# Altium footprint library SOIC.PcbLib: 46 footprints (part 3 of 3)
Each footprint in its own frame and in the unit in brackets; x right, y up, seen from the top. Pads: shape width x height; smd on the part's side, far side on the other; paste and mask are expansions set on the pad; w line width, h text height; cw(c..) or ccw(c..) is an arc to the next point about the centre after c.
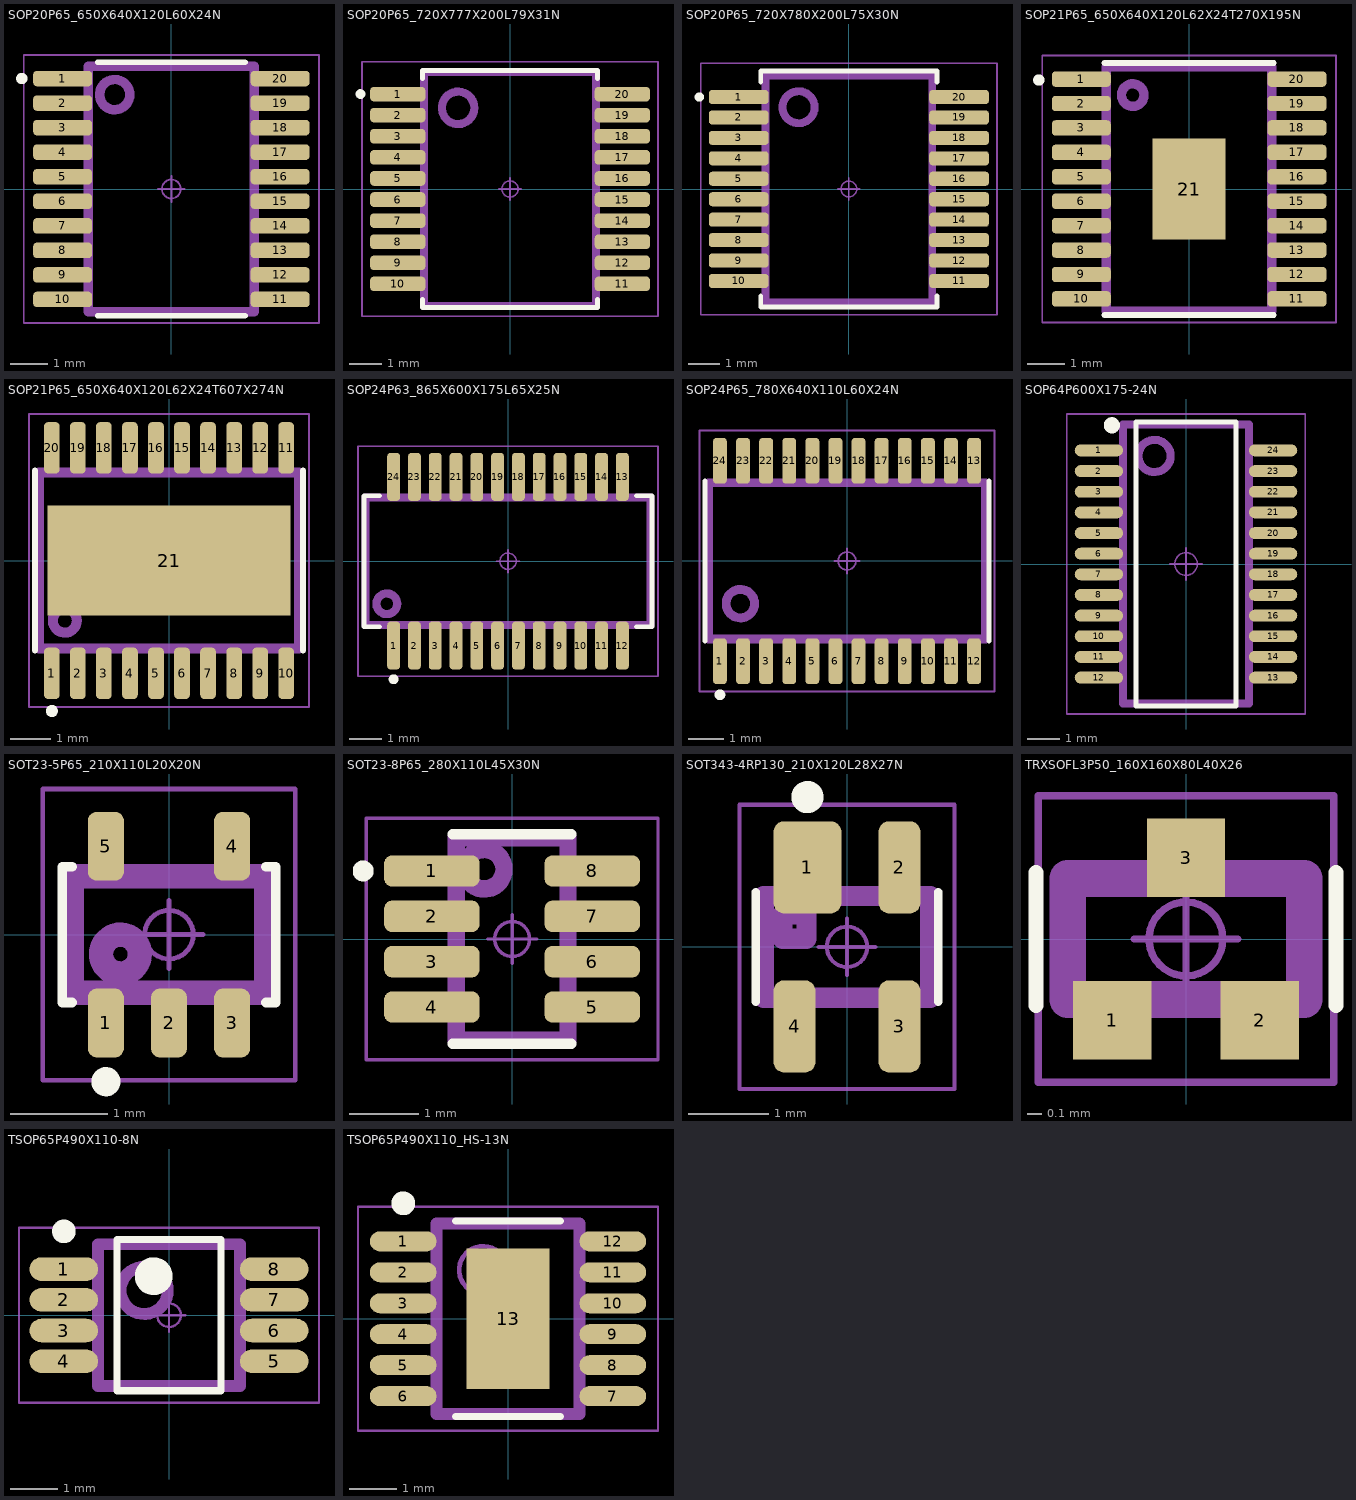
[diagram p2: the footprints below, top view; thin cyan lines are the x and y axes]

## SOP20P65_650X640X120L60X24N [mm] "Small Outline Pkg (SOP), 0.65 mm pitch; 20 pin, 6.50 mm L X 4.40 mm W X 1.20 mm H body"
height 1.2
pads (20):
  rrect49% 1.56x0.41 smd: 1(-2.88,2.925) 2(-2.88,2.275) 3(-2.88,1.625) 4(-2.88,0.975) 5(-2.88,0.325) 6(-2.88,-0.325) 7(-2.88,-0.975) 8(-2.88,-1.625) 9(-2.88,-2.275) 10(-2.88,-2.925) 11(2.88,-2.925) 12(2.88,-2.275) 13(2.88,-1.625) 14(2.88,-0.975) 15(2.88,-0.325) 16(2.88,0.325) 17(2.88,0.975) 18(2.88,1.625) 19(2.88,2.275) 20(2.88,2.925)
Top Overlay:
  circle w0.15: c-3.96,2.925 r0.075
  lines w0.15: -1.95,-3.355 1.95,-3.355 ; -1.95,3.355 1.95,3.355
Top Assembly:
  circle w0.25: c-1.5,2.5 r0.4
  lines w0.25: -2.2,-3.25 2.2,-3.25 2.2,3.25 -2.2,3.25 -2.2,-3.25
  text ".Designator" at -3.378,-0.339 h1.5
Top Courtyard:
  circle w0.05: c0,0 r0.25
  lines w0.05: -0.35,0 0.35,0 ; 0,-0.35 0,0.35 ; -3.91,-3.55 3.91,-3.55 3.91,3.55 -3.91,3.55 -3.91,-3.55
3D body "SOP20P65_650X640X120L60X24.STEP": height 1.2, standoff 0, extent -3.2,-3.25 3.2,3.25

## SOP20P65_720X777X200L79X31N [mm] "Small Outline Pkg (SOP), 0.65 mm pitch; 20 pin, 7.20 mm L X 5.29 mm W X 2.00 mm H body"
height 2
pads (20):
  rrect50% 1.7x0.45 smd: 1(-3.46,2.925) 2(-3.46,2.275) 3(-3.46,1.625) 4(-3.46,0.975) 5(-3.46,0.325) 6(-3.46,-0.325) 7(-3.46,-0.975) 8(-3.46,-1.625) 9(-3.46,-2.275) 10(-3.46,-2.925) 11(3.46,-2.925) 12(3.46,-2.275) 13(3.46,-1.625) 14(3.46,-0.975) 15(3.46,-0.325) 16(3.46,0.325) 17(3.46,0.975) 18(3.46,1.625) 19(3.46,2.275) 20(3.46,2.925)
Top Overlay:
  circle w0.15: c-4.61,2.925 r0.075
  lines w0.15: -2.7,-3.4 -2.7,-3.65 2.7,-3.65 2.7,-3.4 ; -2.7,3.4 -2.7,3.65 2.7,3.65 2.7,3.4
Top Assembly:
  circle w0.25: c-1.6,2.5 r0.5
  lines w0.25: -2.65,-3.6 2.65,-3.6 2.65,3.6 -2.65,3.6 -2.65,-3.6
  text ".Designator" at -3.378,-0.339 h1.5
Top Courtyard:
  circle w0.05: c0,0 r0.25
  lines w0.05: -0.35,0 0.35,0 ; 0,-0.35 0,0.35 ; -4.56,-3.92 4.56,-3.92 4.56,3.92 -4.56,3.92 -4.56,-3.92
3D body "SOP20P65_720X777X200L79X31.STEP": height 2, standoff 0, extent -3.888,-3.6 3.888,3.6

## SOP20P65_720X780X200L75X30N [mm] "Small Outline Pkg (SOP), 0.65 mm pitch; 20 pin, 7.20 mm L X 5.30 mm W X 2.00 mm H body"
height 2
pads (20):
  rrect50% 1.9x0.45 smd: 1(-3.505,2.925) 2(-3.505,2.275) 3(-3.505,1.625) 4(-3.505,0.975) 5(-3.505,0.325) 6(-3.505,-0.325) 7(-3.505,-0.975) 8(-3.505,-1.625) 9(-3.505,-2.275) 10(-3.505,-2.925) 11(3.505,-2.925) 12(3.505,-2.275) 13(3.505,-1.625) 14(3.505,-0.975) 15(3.505,-0.325) 16(3.505,0.325) 17(3.505,0.975) 18(3.505,1.625) 19(3.505,2.275) 20(3.505,2.925)
Top Overlay:
  circle w0.15: c-4.755,2.925 r0.075
  lines w0.15: -2.8,-3.4 -2.8,-3.75 2.8,-3.75 2.8,-3.4 ; -2.8,3.4 -2.8,3.75 2.8,3.75 2.8,3.4
Top Assembly:
  circle w0.25: c-1.6,2.6 r0.51
  lines w0.25: -2.65,-3.6 -2.65,3.6 2.65,3.6 2.65,-3.6 -2.65,-3.6
  text ".Designator" at -3.378,-0.339 h1.5
Top Courtyard:
  circle w0.05: c0,0 r0.25
  lines w0.05: -0.35,0 0.35,0 ; 0,-0.35 0,0.35 ; -4.71,-4 -4.71,4 4.71,4 4.71,-4 -4.71,-4
3D body "SOP20P65_720X780X200L75X30.STEP": height 2, standoff 0, extent -3.9,-3.6 3.9,3.6

## SOP21P65_650X640X120L62X24T270X195N [mm] "Small Outline Pkg (SOP with Tab), 0.65 mm pitch; 20 pin, 6.50 mm L X 4.40 mm W X 1.20 mm H body"
height 1.2
pads (21):
  rrect49% 1.57x0.41 smd: 1(-2.87,2.925) 2(-2.87,2.275) 3(-2.87,1.625) 4(-2.87,0.975) 5(-2.87,0.325) 6(-2.87,-0.325) 7(-2.87,-0.975) 8(-2.87,-1.625) 9(-2.87,-2.275) 10(-2.87,-2.925) 11(2.87,-2.925) 12(2.87,-2.275) 13(2.87,-1.625) 14(2.87,-0.975) 15(2.87,-0.325) 16(2.87,0.325) 17(2.87,0.975) 18(2.87,1.625) 19(2.87,2.275) 20(2.87,2.925)
  rect 1.95x2.7 smd: 21(0,0)
Top Overlay:
  circle w0.15: c-4,2.9 r0.075
  lines w0.15: -2.25,-3.355 2.25,-3.355 ; -2.25,3.355 2.25,3.355
Top Paste:
  region: 0.145,0.145 0.145,1.205 0.835,1.205 0.835,0.145
  region: -0.835,0.145 -0.835,1.205 -0.145,1.205 -0.145,0.145
  region: 0.145,-1.205 0.145,-0.145 0.835,-0.145 0.835,-1.205
  region: -0.835,-1.205 -0.835,-0.145 -0.145,-0.145 -0.145,-1.205
Top Assembly:
  circle w0.25: c-1.5,2.5 r0.3
  lines w0.25: -2.2,-3.25 2.2,-3.25 2.2,3.25 -2.2,3.25 -2.2,-3.25
  text ".Designator" at -3.378,-0.339 h1.5
Top Courtyard:
  circle w0.05: c0,0 r0.25
  lines w0.05: -0.35,0 0.35,0 ; 0,-0.35 0,0.35 ; -3.91,-3.55 3.91,-3.55 3.91,3.55 -3.91,3.55 -3.91,-3.55
3D body "SOP21P65_650X640X120L62X24T270X195.STEP": height 1.2, standoff 0, extent -3.2,-3.25 3.2,3.25

## SOP21P65_650X640X120L62X24T607X274N [mm] "Small Outline Pkg (SOP with Tab), 0.65 mm pitch; 20 pin, 6.50 mm L X 4.40 mm W X 1.20 mm H body"
height 1.2
pads (21):
  rrect51% 0.39x1.28 smd: 1(-2.925,-2.815) 2(-2.275,-2.815) 3(-1.625,-2.815) 4(-0.975,-2.815) 5(-0.325,-2.815) 6(0.325,-2.815) 7(0.975,-2.815) 8(1.625,-2.815) 9(2.275,-2.815) 10(2.925,-2.815) 11(2.925,2.815) 12(2.275,2.815) 13(1.625,2.815) 14(0.975,2.815) 15(0.325,2.815) 16(-0.325,2.815) 17(-0.975,2.815) 18(-1.625,2.815) 19(-2.275,2.815) 20(-2.925,2.815)
  rect 6.07x2.74 smd paste-6.07: 21(0,0)
Top Overlay:
  circle w0.15: c-2.925,-3.755 r0.075
  lines w0.15: -3.345,-2.25 -3.345,2.25 ; 3.345,-2.25 3.345,2.25
Top Paste:
  region: 2.94,-0.97 1.62,-0.97 1.62,0.97 2.94,0.97
  region: 1.42,-0.97 0.1,-0.97 0.1,0.97 1.42,0.97
  region: -0.1,-0.97 -1.42,-0.97 -1.42,0.97 -0.1,0.97
  region: -1.62,-0.97 -2.94,-0.97 -2.94,0.97 -1.62,0.97
Top Assembly:
  circle w0.25: c-2.6,-1.5 r0.3
  lines w0.25: -3.25,-2.2 -3.25,2.2 3.25,2.2 3.25,-2.2 -3.25,-2.2
  text ".Designator" at -3.378,-0.339 h1.5
Top Courtyard:
  circle w0.05: c0,0 r0.25
  lines w0.05: -0.35,0 0.35,0 ; 0,-0.35 0,0.35 ; -3.5,-3.66 -3.5,3.66 3.5,3.66 3.5,-3.66 -3.5,-3.66
3D body "SOP21P65_650X640X120L62X24T607X274.STEP": height 1.2, standoff 0, extent -3.25,-3.2 3.25,3.2

## SOP24P63_865X600X175L65X25N [mm] "Small Outline Pkg (SOP), 0.635 mm pitch; 24 pin, 8.65 mm L X 3.90 mm W X 1.75 mm H body"
height 1.75
pads (24):
  rrect51% 0.39x1.46 smd: 1(-3.492,-2.575) 2(-2.857,-2.575) 3(-2.222,-2.575) 4(-1.587,-2.575) 5(-0.953,-2.575) 6(-0.318,-2.575) 7(0.318,-2.575) 8(0.953,-2.575) 9(1.587,-2.575) 10(2.222,-2.575) 11(2.857,-2.575) 12(3.492,-2.575) 13(3.492,2.575) 14(2.857,2.575) 15(2.222,2.575) 16(1.587,2.575) 17(0.953,2.575) 18(0.318,2.575) 19(-0.318,2.575) 20(-0.953,2.575) 21(-1.587,2.575) 22(-2.222,2.575) 23(-2.857,2.575) 24(-3.492,2.575)
Top Overlay:
  circle w0.15: c-3.492,-3.605 r0.075
  lines w0.15: -3.925,-2 -4.4,-2 -4.4,2 -3.925,2 ; 3.925,-2 4.4,-2 4.4,2 3.925,2
Top Assembly:
  circle w0.25: c-3.7,-1.3 r0.316
  lines w0.25: -4.35,-1.95 4.35,-1.95 4.35,1.95 -4.35,1.95 -4.35,-1.95
  text ".Designator" at -3.378,-0.339 h1.5
Top Courtyard:
  circle w0.05: c0,0 r0.25
  lines w0.05: -0.35,0 0.35,0 ; 0,-0.35 0,0.35 ; -4.58,-3.51 4.58,-3.51 4.58,3.51 -4.58,3.51 -4.58,-3.51
3D body "SOP24P63_865X600X175L65X25.STEP": height 1.75, standoff 0, extent -4.325,-3 4.325,3

## SOP24P65_780X640X110L60X24N [mm] "Small Outline Pkg (SOP), 0.65 mm pitch; 24 pin, 7.80 mm L X 4.40 mm W X 1.10 mm H body"
height 1.1
pads (24):
  rrect51% 0.39x1.29 smd: 1(-3.575,-2.82) 2(-2.925,-2.82) 3(-2.275,-2.82) 4(-1.625,-2.82) 5(-0.975,-2.82) 6(-0.325,-2.82) 7(0.325,-2.82) 8(0.975,-2.82) 9(1.625,-2.82) 10(2.275,-2.82) 11(2.925,-2.82) 12(3.575,-2.82) 13(3.575,2.82) 14(2.925,2.82) 15(2.275,2.82) 16(1.625,2.82) 17(0.975,2.82) 18(0.325,2.82) 19(-0.325,2.82) 20(-0.975,2.82) 21(-1.625,2.82) 22(-2.275,2.82) 23(-2.925,2.82) 24(-3.575,2.82)
Top Overlay:
  circle w0.15: c-3.575,-3.765 r0.075
  lines w0.15: -3.995,-2.25 -3.995,2.25 ; 3.995,-2.25 3.995,2.25
Top Assembly:
  circle w0.25: c-3,-1.2 r0.4
  lines w0.25: -3.9,-2.2 -3.9,2.2 3.9,2.2 3.9,-2.2 -3.9,-2.2
  text ".Designator" at -3,-0.3 h1.5
Top Courtyard:
  circle w0.05: c0,0 r0.25
  lines w0.05: -0.35,0 0.35,0 ; 0,-0.35 0,0.35 ; -4.15,-3.67 -4.15,3.67 4.15,3.67 4.15,-3.67 -4.15,-3.67
3D body "SOP24P65_780X640X110L60X24.STEP": height 1.1, standoff 0, extent -3.9,-3.2 3.9,3.2

## SOP64P600X175-24N [mm] "SOP, 24-Leads, Body 8.65x3.90mm, Pitch 0.64mm, IPC Medium Density"
height 1.75
pads (24):
  oval 1.5x0.37 smd: 1(-2.7,3.52) 2(-2.7,2.88) 3(-2.7,2.24) 4(-2.7,1.6) 5(-2.7,0.96) 6(-2.7,0.32) 7(-2.7,-0.32) 8(-2.7,-0.96) 9(-2.7,-1.6) 10(-2.7,-2.24) 11(-2.7,-2.88) 12(-2.7,-3.52) 13(2.7,-3.52) 14(2.7,-2.88) 15(2.7,-2.24) 16(2.7,-1.6) 17(2.7,-0.96) 18(2.7,-0.32) 19(2.7,0.32) 20(2.7,0.96) 21(2.7,1.6) 22(2.7,2.24) 23(2.7,2.88) 24(2.7,3.52)
Top Overlay:
  circle w0.25: c-2.3,4.3 r0.125
  lines w0.15: -1.55,-4.4 1.55,-4.4 1.55,4.4 -1.55,4.4 -1.55,-4.4
Top Assembly:
  circle w0.25: c-0.975,3.35 r0.5
  lines w0.25: -1.95,-4.325 1.95,-4.325 1.95,4.325 -1.95,4.325 -1.95,-4.325
  text ".Designator" at -1.2,-0.318 h1.5
Top Courtyard:
  circle w0.05: c0,0 r0.35
  lines w0.05: -0.5,0 0.5,0 ; 0,-0.5 0,0.5 ; -3.7,-4.65 3.7,-4.65 3.7,4.65 -3.7,4.65 -3.7,-4.65
3D body "SOP64P600X175-24N.step": height 1.75, standoff 0, extent -3,-4.4 3,4.4

## SOT23-5P65_210X110L20X20N [mm] "Small Outline Transistor (SOT23), 0.65 mm pitch; 5 pin, 2.00 mm L X 1.25 mm W X 1.10 mm H body"
height 1.1
pads (5):
  rrect49% 0.37x0.71 smd: 1(-0.65,-0.91) 2(0,-0.91) 3(0.65,-0.91) 4(0.65,0.91) 5(-0.65,0.91)
Top Overlay:
  circle w0.15: c-0.65,-1.515 r0.075
  lines w0.1: -1,-0.7 -1.1,-0.7 -1.1,0.7 -1,0.7 ; 1,-0.7 1.1,-0.7 1.1,0.7 1,0.7
Top Assembly:
  circle w0.25: c-0.5,-0.2 r0.2
  lines w0.25: -1,-0.6 -1,0.6 1,0.6 1,-0.6 -1,-0.6
  text ".Designator" at -2.3,1.1 h1.5
Top Courtyard:
  circle w0.05: c0,0 r0.25
  lines w0.05: -0.35,0 0.35,0 ; 0,-0.35 0,0.35 ; -1.3,-1.5 -1.3,1.5 1.3,1.5 1.3,-1.5 -1.3,-1.5
3D body "SOT23-5P65_210X110L20X20.STEP": height 1.1, standoff 0, extent -1,-1.05 1,1.05

## SOT23-8P65_280X110L45X30N [mm] "Small Outline Transistor (SOT23), 0.65 mm pitch; 8 pin, 2.90 mm L X 1.60 mm W X 1.10 mm H body"
height 1.1
pads (8):
  rrect50% 1.37x0.45 smd: 1(-1.15,0.975) 2(-1.15,0.325) 3(-1.15,-0.325) 4(-1.15,-0.975) 5(1.15,-0.975) 6(1.15,-0.325) 7(1.15,0.325) 8(1.15,0.975)
Top Overlay:
  circle w0.15: c-2.135,0.975 r0.075
  lines w0.15: -0.85,-1.5 0.85,-1.5 ; -0.85,1.5 0.85,1.5
Top Assembly:
  circle w0.25: c-0.4,1 r0.283
  lines w0.25: -0.8,-1.45 -0.8,1.45 0.8,1.45 0.8,-1.45 -0.8,-1.45
  text ".Designator" at 0.339,-3.378 h1.5
Top Courtyard:
  circle w0.05: c0,0 r0.25
  lines w0.05: -0.35,0 0.35,0 ; 0,-0.35 0,0.35 ; -2.09,-1.73 -2.09,1.73 2.09,1.73 2.09,-1.73 -2.09,-1.73
3D body "SOT23-8P65_280X110L45X30.STEP": height 1.1, standoff 0, extent -1.4,-1.45 1.4,1.45

## SOT343-4RP130_210X120L28X27N [mm] "Small Outline Transistor (SOT143), 1.30 mm pitch; 4 pin, 2.05 mm L X 1.25 mm W X 1.20 mm H body (w/reversed pins)"
height 1.2
pads (4):
  rrect31% 0.84x1.14 smd: 1(-0.49,0.985)
  rrect50% 0.52x1.14 smd: 2(0.65,0.985) 3(0.65,-0.985) 4(-0.65,-0.985)
Top Overlay:
  circle w0.2: c-0.49,1.855 r0.1
  lines w0.1: -1.13,-0.68 -1.13,0.68 ; 1.13,-0.68 1.13,0.68
Top Assembly:
  lines w0.25: -1.03,-0.63 1.03,-0.63 1.03,0.63 -1.03,0.63 -1.03,-0.63 ; -0.8,0.1 -0.5,0.1 -0.5,0.4 -0.8,0.4 -0.8,0.1
  text ".Designator" at -2.4,1.2 h1.5
Top Courtyard:
  circle w0.05: c0,0 r0.25
  lines w0.05: -0.35,0 0.35,0 ; 0,-0.35 0,0.35 ; -1.33,-1.76 1.33,-1.76 1.33,1.76 -1.33,1.76 -1.33,-1.76
3D body "SOT343-4RP130_210X120L28X27.STEP": height 1.2, standoff 0, extent -1.025,-1.05 1.025,1.05

## TRXSOFL3P50_160X160X80L40X26 [mm] "Transistor, Small Outline Flat Lead (SOFL), 0.50 mm pitch; 3 pin, 1.60 mm L X 0.825 mm W X 0.80 mm H body"
height 0.8
pads (3):
  rect 0.53x0.53 smd: 1(-0.5,-0.55) 2(0.5,-0.55) 3(0,0.55)
Top Overlay:
  lines w0.1: -1.015,-0.45 -1.015,0.45 ; 1.015,-0.45 1.015,0.45
Top Assembly:
  lines w0.25: -0.8,-0.41 -0.8,0.41 0.8,0.41 0.8,-0.41 -0.8,-0.41
  text ".Designator" at -2.4,1 h1.5
Top Courtyard:
  circle w0.05: c0,0 r0.25
  lines w0.05: -0.35,0 0.35,0 ; 0,-0.35 0,0.35 ; -1,-0.97 -1,0.97 1,0.97 1,-0.97 -1,-0.97
3D body "TRXSOFL3P50_160X160X80L40X26.STEP": height 0.8, standoff 0, extent -0.8,-0.813 0.8,0.813

## TSOP65P490X110-8N [mm] "TSOP, 8-Leads, Body 3.00x3.00mm, Pitch 0.65mm, IPC Medium Density"
height 1.1
pads (8):
  oval 1.45x0.5 smd: 1(-2.225,0.975) 2(-2.225,0.325) 3(-2.225,-0.325) 4(-2.225,-0.975) 5(2.225,-0.975) 6(2.225,-0.325) 7(2.225,0.325) 8(2.225,0.975)
Top Overlay:
  circle w0.25: c-2.225,1.775 r0.125
  circle w0.4: c-0.325,0.825 r0.2
  lines w0.15: -1.1,-1.6 -1.1,1.6 1.1,1.6 1.1,-1.6 -1.1,-1.6
Top Assembly:
  circle w0.25: c-0.525,0.525 r0.5
  lines w0.25: -1.5,-1.5 -1.5,1.5 1.5,1.5 1.5,-1.5 -1.5,-1.5
  text ".Designator" at -1.217,-1.218 h1.5
Top Courtyard:
  circle w0.05: c0,0 r0.25
  lines w0.05: -0.35,0 0.35,0 ; 0,-0.35 0,0.35 ; -3.175,-1.85 -3.175,1.85 3.175,1.85 3.175,-1.85 -3.175,-1.85
3D body "TSOP65P490X110-8N.step": height 1.1, standoff 0, extent -2.45,-1.5 2.45,1.5

## TSOP65P490X110_HS-13N [mm] "TSOP, 12-Leads, Body 4.04x3.00mm, Pitch 0.65mm, Thermal Pad 2.95x1.75mm, IPC Medium Density"
height 1.1
pads (13):
  oval 1.4x0.42 smd: 1(-2.2,1.625) 2(-2.2,0.975) 3(-2.2,0.325) 4(-2.2,-0.325) 5(-2.2,-0.975) 6(-2.2,-1.625) 7(2.2,-1.625) 8(2.2,-0.975) 9(2.2,-0.325) 10(2.2,0.325) 11(2.2,0.975) 12(2.2,1.625)
  rect 1.75x2.95 smd: 13(0,0)
Top Overlay:
  circle w0.25: c-2.2,2.425 r0.125
  lines w0.15: -1.1,-2.05 1.1,-2.05 ; -1.1,2.05 1.1,2.05
Top Assembly:
  circle w0.1: c-0.525,1.025 r0.5
  lines w0.25: -1.5,-2 -1.5,2 1.5,2 1.5,-2 -1.5,-2
Top Courtyard:
  circle w0.05: c0,0 r0.3
  lines w0.05: -0.5,0 0.5,0 ; 0,-0.5 0,0.5 ; -3.15,-2.35 -3.15,2.35 3.15,2.35 3.15,-2.35 -3.15,-2.35
3D body "TSOP65P490X110_HS-13N.step": height 1.1, standoff 0, extent -2.45,-2 2.45,2